# Altium integrated library ADC0809CCN.IntLib: 1 symbol
Pins are listed as number, name and electrical type; pins without a type are passive.

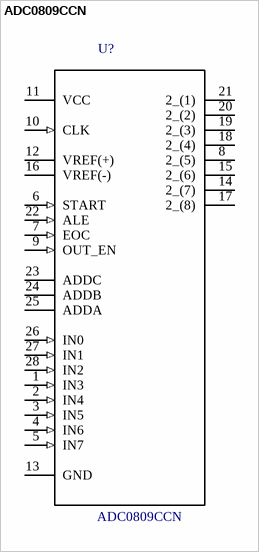
[diagram p0: symbol ADC0809CCN]

## ADC0809CCN
designator U?
8-bit Microprocessor Compatible A/D Converters With 8-Channel Multiplexer 28-PDIP -40 to 85; MP: ADC0809CCN/NOPB; MF: Texas Instruments; Availability: Unavailable; SnapEDA_Link: https://www.snapeda.com/parts/ADC0809CCN/NOPB/Texas%20Instruments/view-part/?ref=snap; Price: None; Package: DIP-28 Texas Instruments; Value: *
footprint *DIP254P1524X483-28
pins: 1 IN3 (in), 2 IN4 (in), 3 IN5 (in), 4 IN6 (in), 5 IN7 (in), 6 START (in), 7 EOC (in), 8 2_(5), 9 OUT_EN (in), 10 CLK (in), 11 VCC (power), 12 VREF(+), 13 GND, 14 2_(7), 15 2_(6), 16 VREF(-), 17 2_(8), 18 2_(4), 19 2_(3), 20 2_(2), 21 2_(1), 22 ALE (in), 23 ADDC, 24 ADDB, 25 ADDA, 26 IN0 (in), 27 IN1 (in), 28 IN2 (in)